# EAGLE library part HCF4017M013TR (library ST Microelectronics)
DECADE COUNTER WITH 10 DECODED OUTPUTS
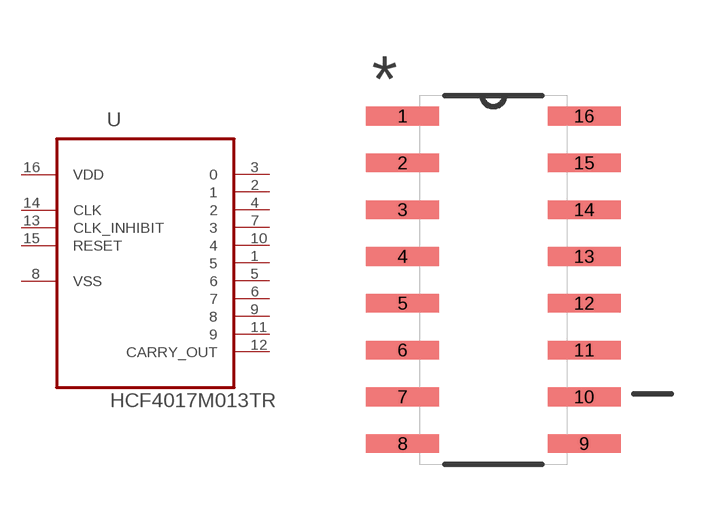
[diagram p11: symbol with the pads of SOIC127P600X175-16N; footprint SOIC127P600X175-16N]

Designator prefix U

## HCF4017M013TR (MPN: HCF4017M013TR; OC_FARNELL: 1288447; OC_NEWARK: 56P7533; PACKAGE: SOIC-16; SUPPLIER: STMICROELECTRONICS)  [SOIC127P600X175-16N]
1  5  out
2  1  out
3  0  out
4  2  out
5  6  out
6  7  out
7  3  out
8  VSS  pas
9  8  out
10  4  out
11  9  out
12  CARRY_OUT  out
13  CLK_INHIBIT  in
14  CLK  in
15  RESET  in
16  VDD  pwr

## Footprint SOIC127P600X175-16N (pad centres in mm)
smd 1.981 x 0.508: 1 -2.464,4.445; 2 -2.464,3.175; 3 -2.464,1.905; 4 -2.464,0.635; 5 -2.464,-0.635; 6 -2.464,-1.905; 7 -2.464,-3.175; 8 -2.464,-4.445; 9 2.464,-4.445; 10 2.464,-3.175; 11 2.464,-1.905; 12 2.464,-0.635; 13 2.464,0.635; 14 2.464,1.905; 15 2.464,3.175; 16 2.464,4.445